# Altium footprint library nova34.PcbLib: 28 footprints (part 2 of 2)
Each footprint in its own frame and in the unit in brackets; x right, y up, seen from the top. Pads: shape width x height; smd on the part's side, far side on the other; paste and mask are expansions set on the pad; w line width, h text height; cw(c..) or ccw(c..) is an arc to the next point about the centre after c.
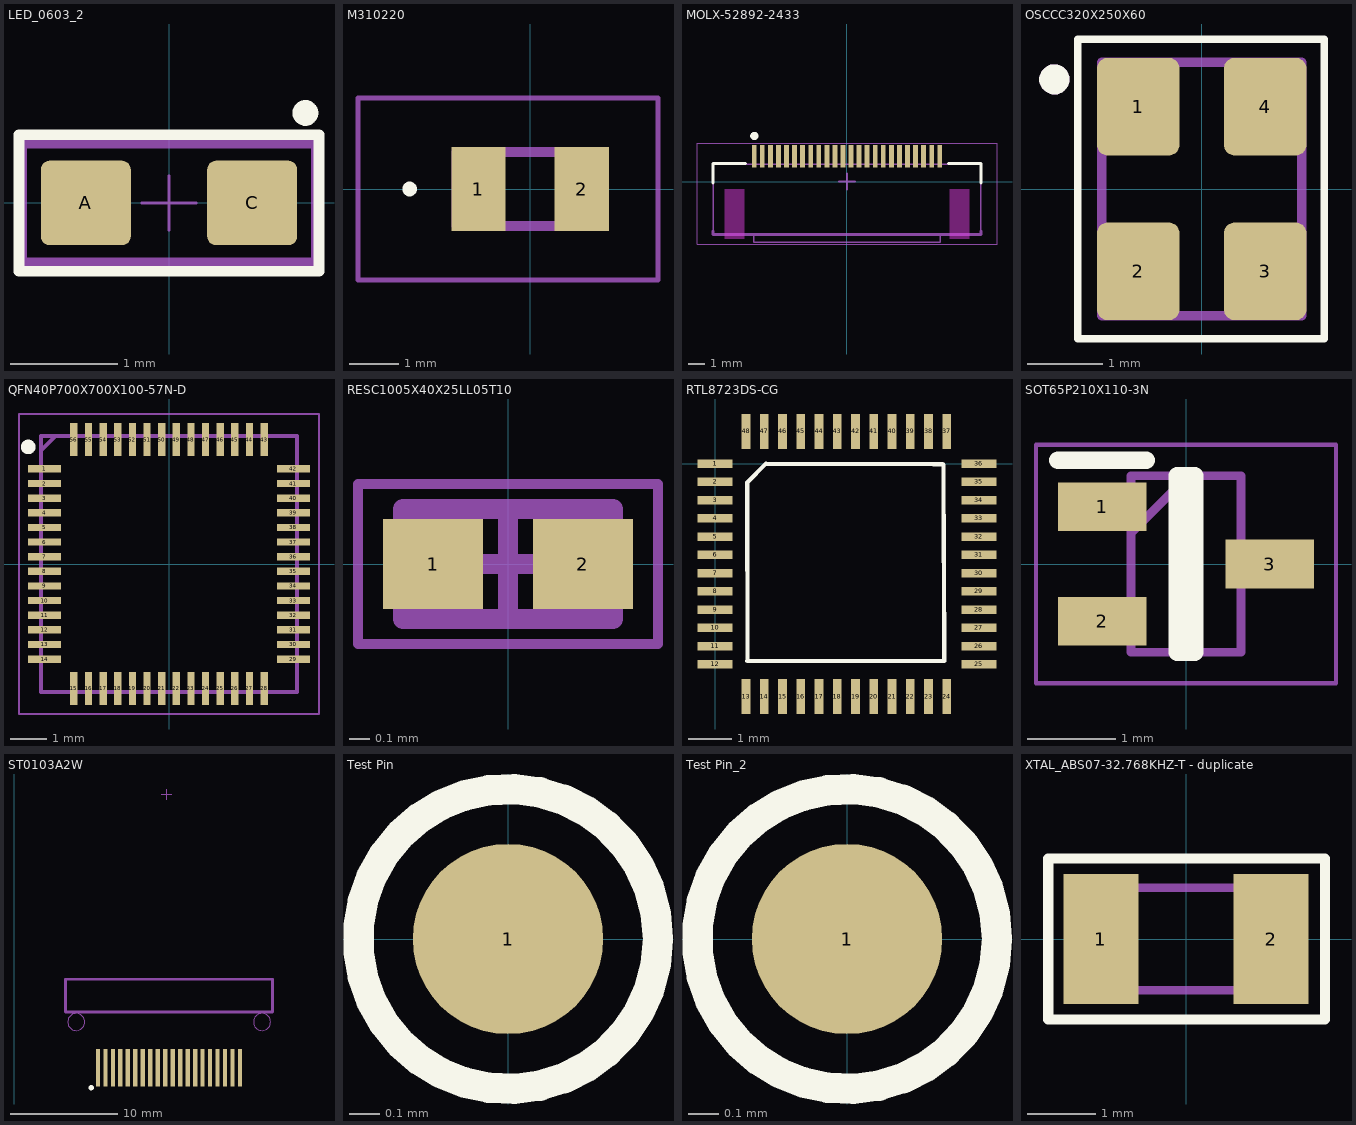
[diagram p1: the footprints below, top view; thin cyan lines are the x and y axes]

## LED_0603_2 [mil]
pads (2):
  rrect20% 33x31 smd mask+1.97: A(-30.51,0) C(30.51,0)
Top Overlay:
  circle w5: c50,33 r2.24
  lines w3.94: -55,-25 -55,25 55,25 55,-25 -55,-25
Mechanical 9:
  lines w1: -10,0 10,0 ; 0,-10 0,10
Mechanical 11:
  lines w3.94: -54,-22 -54,22 54,22 54,-22 -54,-22
3D body "LED_G v1.step": height 7.87, standoff 0, extent -31.5,-15.75 31.49,15.74

## M310220 [mm]
pads (2):
  rect 1.1x1.7 smd: 1(-1.05,0) 2(1.05,0)
Top Overlay:
  lines w0.2: -2.5,0 ccw(c-2.45,0) -2.4,0 ; -2.5,0 cw(c-2.45,0) -2.4,0 ; -2.5,0 ccw(c-2.45,0) -2.4,0
Mechanical 15:
  lines w0.2: -1.5,-0.75 -1.5,0.75 1.5,0.75 1.5,-0.75 -1.5,-0.75
Mechanical 20:
  lines w0.1: -3.5,-1.85 -3.5,1.85 2.6,1.85 2.6,-1.85 -3.5,-1.85
3D body "M310220.STEP": height 1.08, standoff 0, extent -1.525,-0.75 1.475,0.75

## MOLX-52892-2433 [mm] "FPC Connector, 24-Leads, Right Angle, Pitch 0.5 mm, Mated Height 2.0 mm, SMT"
height 2.052
pads (24):
  rect 0.3x1.4 smd mask+0.051: 1(-5.75,1.575) 2(-5.25,1.575) 3(-4.75,1.575) 4(-4.25,1.575) 5(-3.75,1.575) 6(-3.25,1.575) 7(-2.75,1.575) 8(-2.25,1.575) 9(-1.75,1.575) 10(-1.25,1.575) 11(-0.75,1.575) 12(-0.25,1.575) 13(0.25,1.575) 14(0.75,1.575) 15(1.25,1.575) 16(1.75,1.575) 17(2.25,1.575) 18(2.75,1.575) 19(3.25,1.575) 20(3.75,1.575) 21(4.25,1.575) 22(4.75,1.575) 23(5.25,1.575) 24(5.75,1.575)
Top Overlay:
  circle w0.25: c-5.75,2.825 r0.125
  lines w0.2: -8.3,-0.075 -8.3,1.125 -6.3,1.125 ; 6.3,1.125 8.3,1.125 8.3,-0.075
Keep-Out Layer:
  rectangle: -7.6,-3.575 -6.35,-0.475
  rectangle: 6.351,-3.575 7.601,-0.475
Unused:
  lines w0.2: -8.3,-3.275 8.3,-3.275 8.3,-3.075 ; -8.3,-3.275 -8.3,-3.075
Mechanical 13:
  lines w0.1: -8.3,1.125 -8.3,-3.275 -5.785,-3.275 -5.785,-3.775 5.785,-3.775 5.785,-3.275 8.3,-3.275 8.3,1.125 6.5,1.125 6.5,1.075 -6.5,1.075 -6.5,1.125 -8.3,1.125
Mechanical 15:
  lines w0.05: -9.3,-3.875 -9.3,2.375 9.3,2.375 9.3,-3.875 -9.3,-3.875
  lines w0.1: -0.5,0 0.5,0 ; 0,-0.5 0,0.5
3D body "528922433.stp": height 2.05, standoff 0.01, extent -8.7,-3.775 8.7,1.725

## OSCCC320X250X60 [mm]
pads (4):
  rrect25% 1.09x1.29 smd: 1(-0.84,1.09) 2(-0.84,-1.09) 3(0.84,-1.09) 4(0.84,1.09)
Top Overlay:
  circle w0.2: c-1.95,1.45 r0.1
  lines w0.1: -1.64,-1.98 -1.64,1.98 1.62,1.98 1.62,-1.98 -1.64,-1.98
Top Courtyard:
  lines w0.05: -1.635,-1.985 -1.635,1.985 1.635,1.985 1.635,-1.985 -1.635,-1.985
Top 3D Body:
  circle w0.2: c-1.95,1.45 r0.1
  lines w0.127: -1.325,-1.675 -1.325,1.675 1.325,1.675 1.325,-1.675 -1.325,-1.675
3D body "User Library-ECX-32.STEP": height 0.83, standoff 0.02, extent -1.251,-1.601 1.251,1.601

## QFN40P700X700X100-57N-D [mm]
pads (56):
  rect 0.9x0.2 smd: 1(-3.4,2.6) 2(-3.4,2.2) 3(-3.4,1.8) 4(-3.4,1.4) 5(-3.4,1) 6(-3.4,0.6) 7(-3.4,0.2) 8(-3.4,-0.2) 9(-3.4,-0.6) 10(-3.4,-1) 11(-3.4,-1.4) 12(-3.4,-1.8) 13(-3.4,-2.2) 14(-3.4,-2.6) 29(3.4,-2.6) 30(3.4,-2.2) 31(3.4,-1.8) 32(3.4,-1.4) 33(3.4,-1) 34(3.4,-0.6) 35(3.4,-0.2) 36(3.4,0.2) 37(3.4,0.6) 38(3.4,1) 39(3.4,1.4) 40(3.4,1.8) 41(3.4,2.2) 42(3.4,2.6)
  rect 0.2x0.9 smd: 15(-2.6,-3.4) 16(-2.2,-3.4) 17(-1.8,-3.4) 18(-1.4,-3.4) 19(-1,-3.4) 20(-0.6,-3.4) 21(-0.2,-3.4) 22(0.2,-3.4) 23(0.6,-3.4) 24(1,-3.4) 25(1.4,-3.4) 26(1.8,-3.4) 27(2.2,-3.4) 28(2.6,-3.4) 43(2.6,3.4) 44(2.2,3.4) 45(1.8,3.4) 46(1.4,3.4) 47(1,3.4) 48(0.6,3.4) 49(0.2,3.4) 50(-0.2,3.4) 51(-0.6,3.4) 52(-1,3.4) 53(-1.4,3.4) 54(-1.8,3.4) 55(-2.2,3.4) 56(-2.6,3.4)
Top Overlay:
  circle w0.2: c-3.85,3.2 r0.1
Mechanical 15:
  lines w0.1: -3.5,3.1 -3.1,3.5 ; -3.5,-3.5 -3.5,3.5 3.5,3.5 3.5,-3.5 -3.5,-3.5
Mechanical 20:
  lines w0.05: -4.1,-4.1 -4.1,4.1 4.1,4.1 4.1,-4.1 -4.1,-4.1
3D body "PCA9450BHNY.stp": height 1, standoff 0, extent -3.55,-3.55 3.55,3.55

## RESC1005X40X25LL05T10 [mm] "Chip Resistor, 2-Leads, Body 1.00x0.50mm, IPC High Density"
height 0.4
pads (2):
  rect 0.5x0.45 smd: 1(-0.375,0) 2(0.375,0)
Mechanical 13:
  lines w0.1: -0.525,-0.275 -0.525,0.275 0.525,0.275 0.525,-0.275 -0.525,-0.275
Mechanical 15:
  lines w0.05: -0.75,-0.4 -0.75,0.4 0.75,0.4 0.75,-0.4 -0.75,-0.4
  lines w0.1: -0.275,0 0.275,0 ; 0,-0.275 0,0.275
3D body: height 0.4, standoff 0, extent -0.275,-0.275 0.275,0.275
3D body: height 0.4, standoff 0, extent -0.525,-0.275 -0.275,0.275
3D body: height 0.4, standoff 0, extent 0.275,-0.275 0.525,0.275

## RTL8723DS-CG [mm]
pads (48):
  rect 0.8x0.2 smd: 1(0,0) 2(0,-0.418) 3(0,-0.836) 4(0,-1.254) 5(0,-1.672) 6(0,-2.09) 7(0,-2.508) 8(0,-2.926) 9(0,-3.344) 10(0,-3.762) 11(0,-4.179) 12(0,-4.597) 25(6.045,-4.597) 26(6.045,-4.179) 27(6.045,-3.762) 28(6.045,-3.344) 29(6.045,-2.926) 30(6.045,-2.508) 31(6.045,-2.09) 32(6.045,-1.672) 33(6.045,-1.254) 34(6.045,-0.836) 35(6.045,-0.418) 36(6.045,0)
  rect 0.2x0.8 smd: 13(0.711,-5.334) 14(1.129,-5.334) 15(1.547,-5.334) 16(1.965,-5.334) 17(2.383,-5.334) 18(2.801,-5.334) 19(3.219,-5.334) 20(3.637,-5.334) 21(4.055,-5.334) 22(4.473,-5.334) 23(4.891,-5.334) 24(5.309,-5.334) 37(5.309,0.737) 38(4.891,0.737) 39(4.473,0.737) 40(4.055,0.737) 41(3.637,0.737) 42(3.219,0.737) 43(2.801,0.737) 44(2.383,0.737) 45(1.965,0.737) 46(1.547,0.737) 47(1.129,0.737) 48(0.711,0.737)
Top Overlay:
  lines w0.1: 0.737,-4.521 5.252,-4.521 5.232,-0.025 ; 0.737,-0.432 0.744,-4.521 ; 0.743,-0.425 1.168,0 4.997,-0.013
  lines w0.102: 4.997,-0.013 5.22,-0.013
  text "." at -0.002,0.329 h0.4
3D body "LBEE5KL1PJ v11.step": height 0.5, standoff 0, extent -0.66,-5.911 6.74,1.289

## SOT65P210X110-3N [mm]
pads (3):
  rect 1x0.55 smd: 1(-0.95,0.65) 2(-0.95,-0.65) 3(0.95,0)
Top Overlay:
  lines w0.2: -1.45,1.175 -0.45,1.175 ; -0.1,-1 0.1,-1 0.1,1 -0.1,1 -0.1,-1
Mechanical 15:
  lines w0.1: -0.625,0.35 0.025,1 ; -0.625,-1 0.625,-1 0.625,1 -0.625,1 -0.625,-1
Mechanical 20:
  lines w0.05: -1.7,-1.35 1.7,-1.35 1.7,1.35 -1.7,1.35 -1.7,-1.35

## ST0103A2W [mm] "D3-PAK, 20-Pads, Body 16.41x17.53mm (max), IPC Medium Density"
height 5
pads (20):
  rect 0.4x3.5 smd: 1(7.82,-29.625) 2(8.52,-29.625) 3(9.22,-29.625) 4(9.92,-29.625) 5(10.62,-29.625) 6(11.32,-29.625) 7(12.02,-29.625) 8(12.72,-29.625) 9(13.42,-29.625) 10(14.12,-29.625) 11(14.82,-29.625) 12(15.52,-29.625) 13(16.22,-29.625) 14(16.92,-29.625) 15(17.62,-29.625) 16(18.32,-29.625) 17(19.02,-29.625) 18(19.72,-29.625) 19(20.42,-29.625) 20(21.12,-29.625)
Top Overlay:
  circle w0.25: c7.19,-31.49 r0.125
Mechanical 13:
  circle w0.05: c5.79,-25.34 r0.8
  circle w0.05: c23.19,-25.34 r0.8
Mechanical 15:
  lines w0.1: 13.747,-4.02 14.747,-4.02 ; 14.247,-4.52 14.247,-3.52
  lines w0.254: 4.774,-24.396 24.174,-24.396 24.174,-21.346 4.774,-21.346 4.774,-24.396
3D body: height 2, standoff 0, extent 0.75,-19.54 27.6,-0.65
3D body: height 1.9, standoff -0.25, extent 0,-20.29 28.34,0
3D body: height 2.1, standoff 0, extent 2.1,-15.04 26.28,-1.94
3D body: height 0.1, standoff -0.25, extent 6.854,-31.865 22.094,-27.166
3D body: height 0.25, standoff -0.25, extent 4.774,-27.166 24.174,-20.346
3D body: height 0.25, standoff -0.25, extent 4.774,-24.396 24.174,-21.346

## Test Pin [mm]
pads (1):
  round 0.635 smd: 1(0,0)
Top Overlay:
  circle w0.102: c0,0 r0.501

## Test Pin_2 [mm]
pads (1):
  round 0.635 smd: 1(0,0)
Top Overlay:
  circle w0.102: c0,0 r0.501

## XTAL_ABS07-32.768KHZ-T - duplicate [mm] "XTAL_ABS07-32.768KHZ-T\By AAR"
pads (2):
  rect 1.1x1.9 smd: 1(-1.25,0) 2(1.25,0)
Top Overlay:
  lines w0.15: -2.02,-1.18 -2.02,1.18 2.04,1.18 2.04,-1.18 -2.02,-1.18
Top Courtyard:
  lines w0.05: -2.05,-1.2 -2.05,1.2 2.05,1.2 2.05,-1.2 -2.05,-1.2
Top 3D Body:
  lines w0.127: -1.6,-0.75 -1.6,0.75 1.6,0.75 1.6,-0.75 -1.6,-0.75
3D body "ABS07-32.768KHZ-T--3DModel-STEP-56544.STEP": height 0.9, standoff 0, extent -1.6,-0.75 1.6,0.75